# Altium schematic symbol library SCH - INTERFACE - SPI - SN6505B.SCHLIB: 1 symbol
Pins are listed as number, name and electrical type; pins without a type are passive.

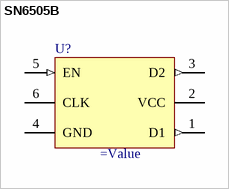
[diagram p0: symbol SN6505B]

## SN6505B
designator U?
SN6505 Low-Noise 1-A Transformer Drivers for Isolated Power Supplies
pins: 1 D1 (out) "The BOOST pin is used to provide a drive voltage, higher than the input voltage, to the internal bipolar NPN power switch.", 2 VCC (power) "The SW pin is the output of the internal power switch. Connect this pin to the inductor, catch diode and boost capacitor.", 3 D2 (out), 4 GND (power), 5 EN (in), 6 CLK (power)